# Altium integrated library Linear Technology Power Management Battery Management.IntLib: 626 symbols (part 2 of 56)
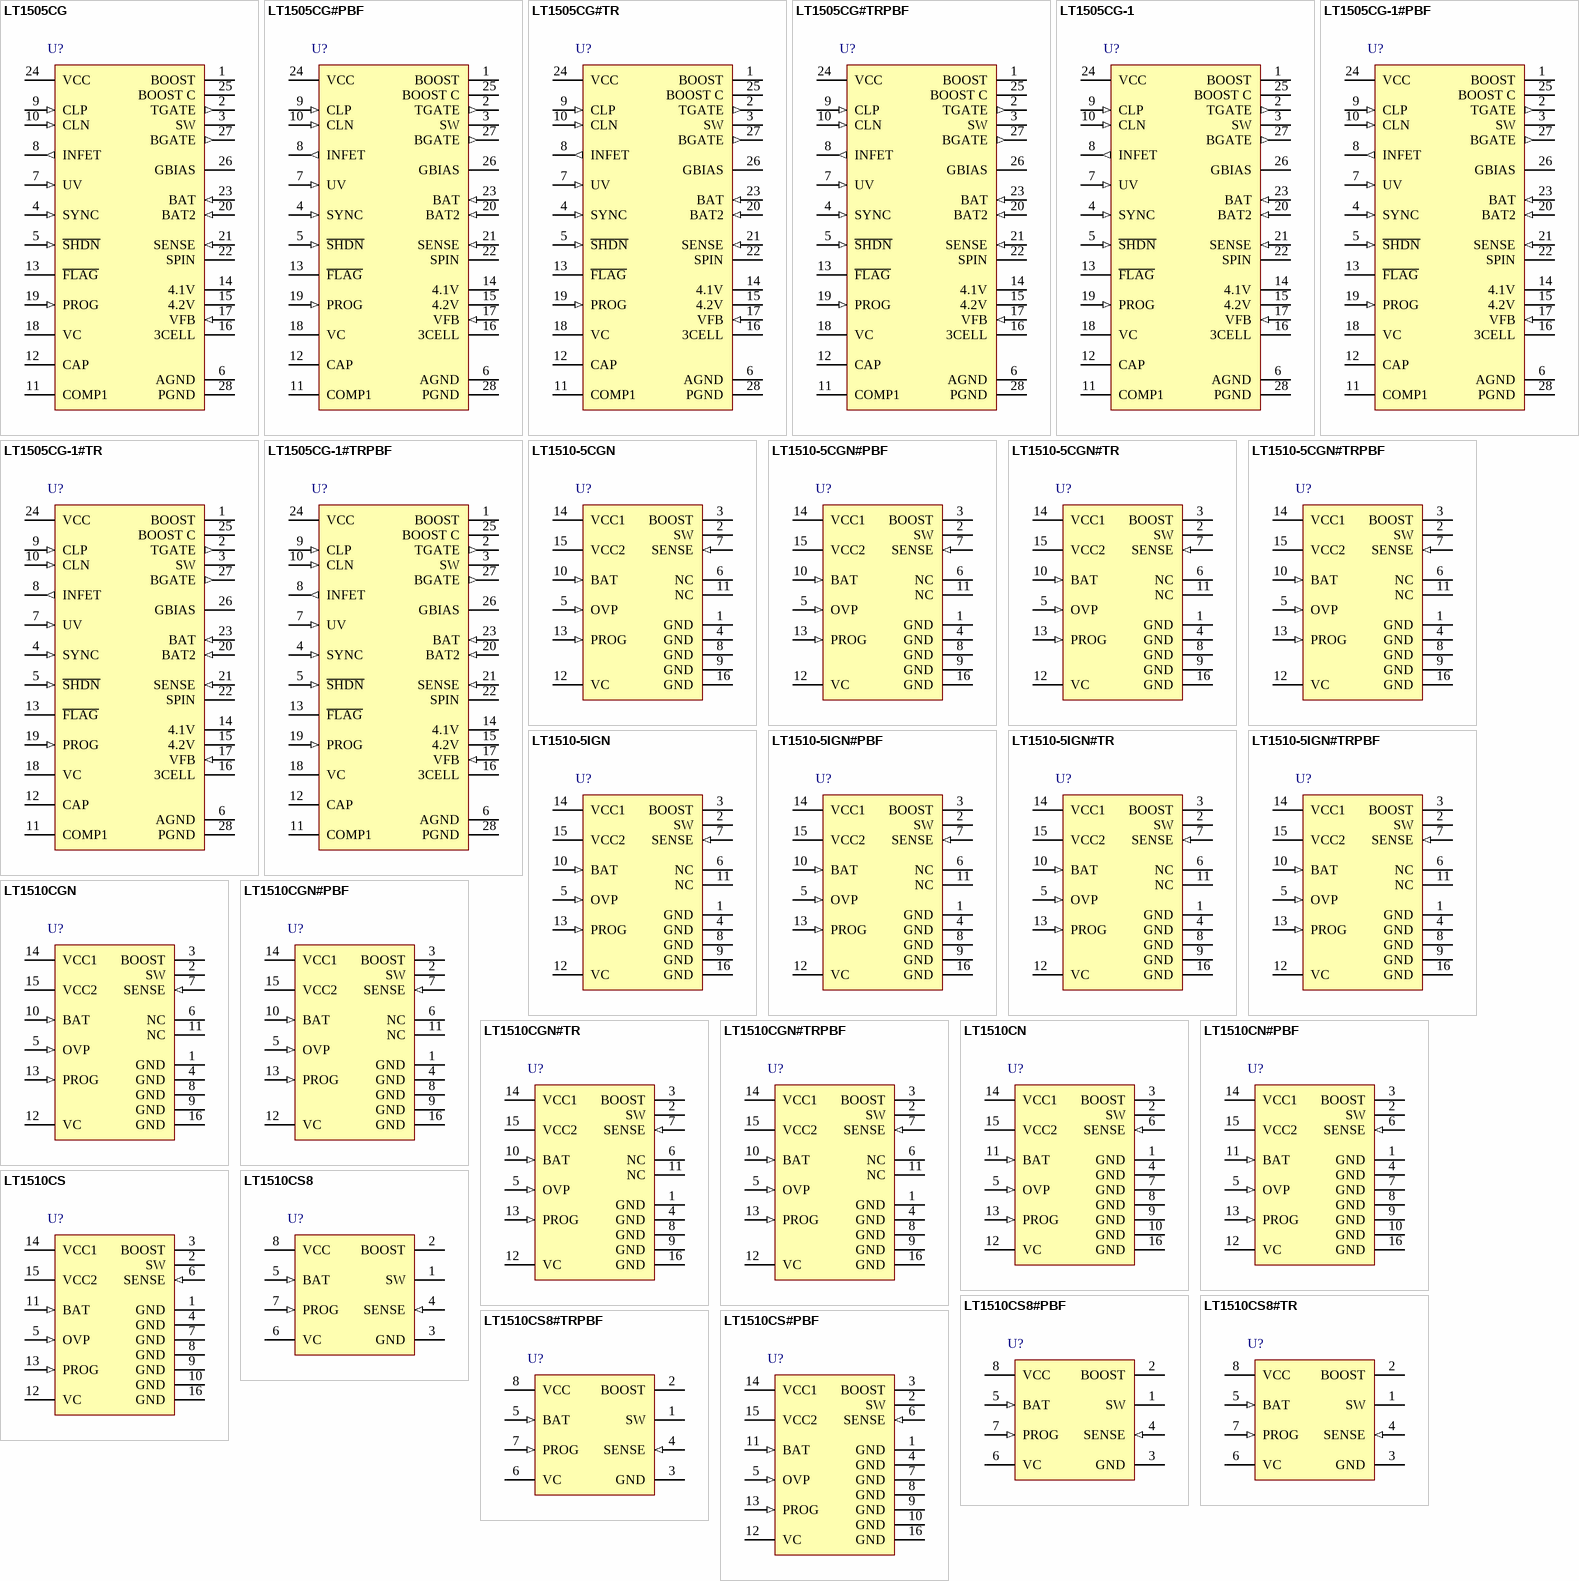
[diagram p23: symbols LT1505CG to LT1510CS#PBF]

## LT1505CG-1#TR
designator U?
Synchronous Switching Controller for High Current, High Efficiency, 11 to 24 V Vin, 28-pin SOP (G-28), 0 to 70 degC, Tape and Reel; Manufacturer: Linear Technology; PartNumber: LT1505CG-1#TR; Battery Chemistry: Li-Ion, Li-Polymer, NiCd, NiMH, Lead Acid; Charge Termination: Microcontroller; Float Voltage: Adj; Max Charge Current(A): 4; Number of Cells: 1 to 4 (Li), 1 to 12 (Ni); Vin Max(V): 24; Vin Min(V): 11; DatasheetVersion: Rev. C; PackageVersion: Jun-10; PackageReference: G-28; PackageDescription: 28-Pin Plastic SSOP, Body 10.2 x 5.3 mm, Pitch 0.65 mm; Supplier 1: Digi-Key; Supplier Part Number 1: LT1505CG-1#TR-ND; Packing: Tape and Reel; RoHS: FALSE; Type of Charger: Switching; Mounting Technology: Surface Mount; ComponentLink1Description: Manufacturer URL; ComponentLink1URL: http://www.linear.com/; ComponentLink2Description: Datasheet; ComponentLink2URL: http://cds.linear.com/docs/en/datasheet/1505fc.pdf; ComponentLink3Description: Package Specification; ComponentLink3URL: http://cds.linear.com/docs/en/packaging/SSOP_28_05-08-1640.pdf
footprint LT-G-28_N (SOP, 28-Leads, Body 10.2x5.3mm, Pitch 0.65mm, IPC Medium Density)
footprint LT-G-28_L (SOP, 28-Leads, Body 10.2x5.3mm, Pitch 0.65mm, IPC High Density)
footprint LT-G-28_M (SOP, 28-Leads, Body 10.2x5.3mm, Pitch 0.65mm, IPC Low Density)
pins: 1 BOOST "This pin is used to bootstrap and supply power for the topside power switch gate drive and control circuity. In normal operation, VBOOST is powered from an internally generated 8.6V regulator VGBIAS, VBOOST approx=  VCC + 9.(See Datasheet)", 2 TGATE (out) "This pin provides gate drive to the topside power FET. When TGATE is driven on, the gate voltage will be approximately equal to VSW + 6.6V. A series resistor of 5ohm to 10ohm should be used from this pin to the gate of the (See Datasheet)", 3 SW "This pin is the reference point for the floating topside gate drive circuitry. It is the common connection for the top and bottom side switches and the output inductor. This pin switches between ground and VCC with very high (See Datasheet)", 4 SYNC (in) "Synchronization Input. The LT1505 can be synchronized to an external clock with pulses that have duty cycles between 10% and 95%. An internal one shot that is triggered on the rising edge of the sync pulse makes this input (See Datasheet)", 5 ~{SHDN} (in) "Shutdown. When this pin is pulled below 1V, switching will stop, GBIAS will go low and the input currents of CA1 will be off. Note that input current of about 4mA keeps the device in shutdown unless an external pull-up (See Datasheet)", 6 AGND (power) "Low Current Analog Ground.", 7 UV (in) "Undervoltage Lockout Input. The rising threshold is 6.7V with a hysteresis of 0.5V. Switching stops in undervoltage lockout. When the input supply (normally the wall adapter output) to the chip is removed, the UV pin must be (See Datasheet)", 8 INFET (out) "For very low dropout applications, an external P-channel MOSFET can be used to connect the input supply to VCC. This pin provides the gate drive for the PFET. The gate drive is clamped to 8V below VCC. The gate is driven on (See Datasheet)", 9 CLP (in) "Positive Input to the Input Current Limit Amplifier CL1. The threshold is set at 92mV. When used to limit input current, a filter is needed to filter out the 200kHz switching noise.", 10 CLN (in) "Negative Input to the Input Current Limit Amplifier CL1. When used, both CLP and CLN should be connected to a voltage higher than 6V and normally VCC (to the VCC bypass capacitor for less noise). Maximum voltage allowed on (See Datasheet)", 11 COMP1 "Compensation Node for the Input Current Limit Amplifier CL1. At input adapter current limit, this pin rises to 1V. By forcing COMP1 low with an external transistor, amplifier CL1 will be disabled (no adapter current limit). (See Datasheet)", 12 CAP "A 0.1uF capacitor from CAP to ground is needed to filter the sampled charging current signal. This filtered signal is used to set the FLAG pin when the charging current drops below 20% of the programmed maximum charging (See Datasheet)", 13 ~{FLAG} (oc) "This pin is an open-collector output that is used to indicate the end of charge. The F\L\A\G\ pin is driven low when the charge current drops below 20% of the programmed charge current. A pull-up resistor is required if this (See Datasheet)", 14 4.1V "These four pins are used to select the battery voltage using the preset internal resistor network. The VFB pin is the noninverting input to the amplifier, VA in the Block Diagram, that controls the charging current when the (See Datasheet)", 15 4.2V "These four pins are used to select the battery voltage using the preset internal resistor network. The VFB pin is the noninverting input to the amplifier, VA in the Block Diagram, that controls the charging current when the (See Datasheet)", 16 3CELL "These four pins are used to select the battery voltage using the preset internal resistor network. The VFB pin is the noninverting input to the amplifier, VA in the Block Diagram, that controls the charging current when the (See Datasheet)", 17 VFB (in) "These four pins are used to select the battery voltage using the preset internal resistor network. The VFB pin is the noninverting input to the amplifier, VA in the Block Diagram, that controls the charging current when the (See Datasheet)", 18 VC "This is the control signal of the inner loop of the current mode PWM. Switching starts at 0.9V, higher VC corresponds to higher charging current in normal operation and reaches 1.1V at full charging current. A capacitor of (See Datasheet)", 19 PROG (in) "This pin is for programming the charge current and for system loop compensation. During normal operation, VPROG stays at 2.465V. If it is shorted to GND or more than 1mA is drawn out of the pin, switching will stop. When a (See Datasheet)", 20 BAT2 (in) "This pin is used to connect the battery to the internal preset voltage setting resistor. An internal switch disconnects the internal divider from the battery when the device is in shutdown or when power is disconnected. This (See Datasheet)", 21 SENSE (in) "This pin is the noninverting input to the current amplifier CA1 in the Block Diagram. Typical bias current is -50uA.", 22 SPIN "This pin is for the internal amplifier CA1 bias. It must be connected as shown in the application circuit.", 23 BAT (in) "Current Amplifier CA1 Inverting Input. Typical bias current is -50uA.", 24 VCC (power) "Input Supply. For good bypass, a low ESR capacitor of 10uF or higher is required. Keep the lead length to a minimum. VCC should be between 11V and 24V Do not force VCC below VBAT by more than 1V with the battery present.", 25 BOOST C (power) "This pin is used to bootstrap and supply the current sense amplifier CA1 for very low dropout condition. VCC can be as low as only 0.4V above the battery voltage. A diode and a capacitor are needed to get the voltage from (See Datasheet)", 26 GBIAS "This is the output of the internal 9.1V regulator to power the drivers and control circuits. This pin must be bypassed to a ground plane with a minimum of 2.2uF ceramic capacitor. Switching will stop when VGBIAS drops below (See Datasheet)", 27 BGATE (out) "Low Side Power MOSFET Drive.", 28 PGND (power) "MOSFET Driver Power Ground. A solid system ground plane is very important. See the LT1505 Demo Manual for further information."

## LT1505CG-1#TRPBF
designator U?
Synchronous Switching Controller for High Current, High Efficiency, 11 to 24 V Vin, 28-pin SOP (G-28), 0 to 70 degC, Pb-Free, Tape and Reel; Manufacturer: Linear Technology; PartNumber: LT1505CG-1#TRPBF; Battery Chemistry: Li-Ion, Li-Polymer, NiCd, NiMH, Lead Acid; Charge Termination: Microcontroller; Float Voltage: Adj; Max Charge Current(A): 4; Number of Cells: 1 to 4 (Li), 1 to 12 (Ni); Vin Max(V): 24; Vin Min(V): 11; DatasheetVersion: Rev. C; PackageVersion: Jun-10; PackageReference: G-28; PackageDescription: 28-Pin Plastic SSOP, Body 10.2 x 5.3 mm, Pitch 0.65 mm; Supplier 1: Digi-Key; Supplier Part Number 1: LT1505CG-1#TRPBF-ND; Packing: Tape and Reel; RoHS: TRUE; Type of Charger: Switching; Mounting Technology: Surface Mount; ComponentLink1Description: Manufacturer URL; ComponentLink1URL: http://www.linear.com/; ComponentLink2Description: Datasheet; ComponentLink2URL: http://cds.linear.com/docs/en/datasheet/1505fc.pdf; ComponentLink3Description: Package Specification; ComponentLink3URL: http://cds.linear.com/docs/en/packaging/SSOP_28_05-08-1640.pdf
footprint LT-G-28_N (SOP, 28-Leads, Body 10.2x5.3mm, Pitch 0.65mm, IPC Medium Density)
footprint LT-G-28_L (SOP, 28-Leads, Body 10.2x5.3mm, Pitch 0.65mm, IPC High Density)
footprint LT-G-28_M (SOP, 28-Leads, Body 10.2x5.3mm, Pitch 0.65mm, IPC Low Density)
pins: 1 BOOST "This pin is used to bootstrap and supply power for the topside power switch gate drive and control circuity. In normal operation, VBOOST is powered from an internally generated 8.6V regulator VGBIAS, VBOOST approx=  VCC + 9.(See Datasheet)", 2 TGATE (out) "This pin provides gate drive to the topside power FET. When TGATE is driven on, the gate voltage will be approximately equal to VSW + 6.6V. A series resistor of 5ohm to 10ohm should be used from this pin to the gate of the (See Datasheet)", 3 SW "This pin is the reference point for the floating topside gate drive circuitry. It is the common connection for the top and bottom side switches and the output inductor. This pin switches between ground and VCC with very high (See Datasheet)", 4 SYNC (in) "Synchronization Input. The LT1505 can be synchronized to an external clock with pulses that have duty cycles between 10% and 95%. An internal one shot that is triggered on the rising edge of the sync pulse makes this input (See Datasheet)", 5 ~{SHDN} (in) "Shutdown. When this pin is pulled below 1V, switching will stop, GBIAS will go low and the input currents of CA1 will be off. Note that input current of about 4mA keeps the device in shutdown unless an external pull-up (See Datasheet)", 6 AGND (power) "Low Current Analog Ground.", 7 UV (in) "Undervoltage Lockout Input. The rising threshold is 6.7V with a hysteresis of 0.5V. Switching stops in undervoltage lockout. When the input supply (normally the wall adapter output) to the chip is removed, the UV pin must be (See Datasheet)", 8 INFET (out) "For very low dropout applications, an external P-channel MOSFET can be used to connect the input supply to VCC. This pin provides the gate drive for the PFET. The gate drive is clamped to 8V below VCC. The gate is driven on (See Datasheet)", 9 CLP (in) "Positive Input to the Input Current Limit Amplifier CL1. The threshold is set at 92mV. When used to limit input current, a filter is needed to filter out the 200kHz switching noise.", 10 CLN (in) "Negative Input to the Input Current Limit Amplifier CL1. When used, both CLP and CLN should be connected to a voltage higher than 6V and normally VCC (to the VCC bypass capacitor for less noise). Maximum voltage allowed on (See Datasheet)", 11 COMP1 "Compensation Node for the Input Current Limit Amplifier CL1. At input adapter current limit, this pin rises to 1V. By forcing COMP1 low with an external transistor, amplifier CL1 will be disabled (no adapter current limit). (See Datasheet)", 12 CAP "A 0.1uF capacitor from CAP to ground is needed to filter the sampled charging current signal. This filtered signal is used to set the FLAG pin when the charging current drops below 20% of the programmed maximum charging (See Datasheet)", 13 ~{FLAG} (oc) "This pin is an open-collector output that is used to indicate the end of charge. The F\L\A\G\ pin is driven low when the charge current drops below 20% of the programmed charge current. A pull-up resistor is required if this (See Datasheet)", 14 4.1V "These four pins are used to select the battery voltage using the preset internal resistor network. The VFB pin is the noninverting input to the amplifier, VA in the Block Diagram, that controls the charging current when the (See Datasheet)", 15 4.2V "These four pins are used to select the battery voltage using the preset internal resistor network. The VFB pin is the noninverting input to the amplifier, VA in the Block Diagram, that controls the charging current when the (See Datasheet)", 16 3CELL "These four pins are used to select the battery voltage using the preset internal resistor network. The VFB pin is the noninverting input to the amplifier, VA in the Block Diagram, that controls the charging current when the (See Datasheet)", 17 VFB (in) "These four pins are used to select the battery voltage using the preset internal resistor network. The VFB pin is the noninverting input to the amplifier, VA in the Block Diagram, that controls the charging current when the (See Datasheet)", 18 VC "This is the control signal of the inner loop of the current mode PWM. Switching starts at 0.9V, higher VC corresponds to higher charging current in normal operation and reaches 1.1V at full charging current. A capacitor of (See Datasheet)", 19 PROG (in) "This pin is for programming the charge current and for system loop compensation. During normal operation, VPROG stays at 2.465V. If it is shorted to GND or more than 1mA is drawn out of the pin, switching will stop. When a (See Datasheet)", 20 BAT2 (in) "This pin is used to connect the battery to the internal preset voltage setting resistor. An internal switch disconnects the internal divider from the battery when the device is in shutdown or when power is disconnected. This (See Datasheet)", 21 SENSE (in) "This pin is the noninverting input to the current amplifier CA1 in the Block Diagram. Typical bias current is -50uA.", 22 SPIN "This pin is for the internal amplifier CA1 bias. It must be connected as shown in the application circuit.", 23 BAT (in) "Current Amplifier CA1 Inverting Input. Typical bias current is -50uA.", 24 VCC (power) "Input Supply. For good bypass, a low ESR capacitor of 10uF or higher is required. Keep the lead length to a minimum. VCC should be between 11V and 24V Do not force VCC below VBAT by more than 1V with the battery present.", 25 BOOST C (power) "This pin is used to bootstrap and supply the current sense amplifier CA1 for very low dropout condition. VCC can be as low as only 0.4V above the battery voltage. A diode and a capacitor are needed to get the voltage from (See Datasheet)", 26 GBIAS "This is the output of the internal 9.1V regulator to power the drivers and control circuits. This pin must be bypassed to a ground plane with a minimum of 2.2uF ceramic capacitor. Switching will stop when VGBIAS drops below (See Datasheet)", 27 BGATE (out) "Low Side Power MOSFET Drive.", 28 PGND (power) "MOSFET Driver Power Ground. A solid system ground plane is very important. See the LT1505 Demo Manual for further information."

## LT1510-5CGN
designator U?
Constant-Voltage/ Constant-Current Battery Charger, 7 to 29 V Vin, 16-pin SOP (GN-16), 0 to 70 degC; Manufacturer: Linear Technology; PartNumber: LT1510-5CGN; Battery Chemistry: Li-Ion, Li-Polymer, NiCd, NiMH, Lead Acid; Charge Termination: Use LTC1729; Float Voltage: Adj; Max Charge Current(A): 1.07; Number of Cells: 1 to 4 (Li), 1 to 12 (Ni); Type of Charger: Switching; Vin Max(V): 29; Vin Min(V): 7; DatasheetVersion: Rev. C; PackageVersion: Rev. B, 03/2012; PackageReference: GN-16; PackageDescription: 16-Pin Plastic SSOP, Body 4.9 x 3.9 mm, Pitch 0.635 mm; Supplier 1: Digi-Key; Supplier Part Number 1: LT1510-5CGN-ND; RoHS: FALSE; Mounting Technology: Surface Mount; ComponentLink1Description: Manufacturer URL; ComponentLink1URL: http://www.linear.com/; ComponentLink2Description: Datasheet; ComponentLink2URL: http://cds.linear.com/docs/en/datasheet/1510fc.pdf; ComponentLink3Description: Package Specification; ComponentLink3URL: http://cds.linear.com/docs/en/packaging/05081641_B_GN16.pdf
footprint LT-GN-16_N (SOP, 16-Leads, Body 5x4mm, Pitch 0.635mm, IPC Medium Density)
footprint LT-GN-16_L (SOP, 16-Leads, Body 5x4mm, Pitch 0.635mm, IPC High Density)
footprint LT-GN-16_M (SOP, 16-Leads, Body 5x4mm, Pitch 0.635mm, IPC Low Density)
pins: 1 GND (power) "Ground Pin.", 2 SW (power) "Switch Output. The Schottky catch diode must be placed with very short lead length in close proximity to SW pin and GND.", 3 BOOST "This pin is used to bootstrap and drive the switch power NPN transistor to a low on-voltage for low power dissipation. In normal operation, VBOOST = VCC + VBAT when switch is on. Maximum allowable VBOOST is 55V.", 4 GND (power) "Ground Pin.", 5 OVP (in) "This is the input to the amplifier VA with a threshold of 2.465V. Typical input current is about 50nA into pin. For charging lithium-ion batteries, VA monitors the battery voltage and reduces charging current when battery (See Datasheet)", 6 NC, 7 SENSE (in) "Current Amplifier CA1 Input. Sensing can be at either terminal of the battery. Note that current sense resistor RS1 (0.08ohm) is between Sense and BAT pins.", 8 GND (power) "Ground Pin.", 9 GND (power) "Ground Pin.", 10 BAT (in) "Current Amplifier CA1 Input.", 11 NC, 12 VC "This is the control signal of the inner loop of the current mode PWM. Switching starts at 0.7V and higher VC corresponds to higher charging current in normal operation. A capacitor of at least 0.1uF to GND filters out noise (See Datasheet)", 13 PROG (in) "This pin is for programming the charging current and for system loop compensation. During normal operation, VPROG stays close to 2.465V. If it is shorted to GND the switching will stop. When a microprocessor-controlled DAC (See Datasheet)", 14 VCC1 (power) "Supply for the Chip. For good bypass, a low ESR capacitor of 10uF or higher is required, with the lead length kept to a minimum. VCC should be between 8V and 28V and at least 2V higher than VBAT for VBAT less than 10V, and 2.(See Datasheet)", 15 VCC2 (power) "Supply for the Chip. For good bypass, a low ESR capacitor of 10uF or higher is required, with the lead length kept to a minimum. VCC should be between 8V and 28V and at least 2V higher than VBAT for VBAT less than 10V, and 2.(See Datasheet)", 16 GND (power) "Ground Pin."

## LT1510-5CGN#PBF
designator U?
Constant-Voltage/ Constant-Current Battery Charger, 7 to 29 V Vin, 16-pin SOP (GN-16), 0 to 70 degC, Pb-Free; Manufacturer: Linear Technology; PartNumber: LT1510-5CGN#PBF; Battery Chemistry: Li-Ion, Li-Polymer, NiCd, NiMH, Lead Acid; Charge Termination: Use LTC1729; Float Voltage: Adj; Max Charge Current(A): 1.07; Number of Cells: 1 to 4 (Li), 1 to 12 (Ni); Type of Charger: Switching; Vin Max(V): 29; Vin Min(V): 7; DatasheetVersion: Rev. C; PackageVersion: Rev. B, 03/2012; PackageReference: GN-16; PackageDescription: 16-Pin Plastic SSOP, Body 4.9 x 3.9 mm, Pitch 0.635 mm; Supplier 1: Digi-Key; Supplier Part Number 1: LT1510-5CGN#PBF-ND; Supplier 2: Farnell; Supplier Part Number 2: 2252789; Supplier 3: Newark; Supplier Part Number 3: 57M4664; RoHS: TRUE; Mounting Technology: Surface Mount; ComponentLink1Description: Manufacturer URL; ComponentLink1URL: http://www.linear.com/; ComponentLink2Description: Datasheet; ComponentLink2URL: http://cds.linear.com/docs/en/datasheet/1510fc.pdf; ComponentLink3Description: Package Specification; ComponentLink3URL: http://cds.linear.com/docs/en/packaging/05081641_B_GN16.pdf
footprint LT-GN-16_N (SOP, 16-Leads, Body 5x4mm, Pitch 0.635mm, IPC Medium Density)
footprint LT-GN-16_L (SOP, 16-Leads, Body 5x4mm, Pitch 0.635mm, IPC High Density)
footprint LT-GN-16_M (SOP, 16-Leads, Body 5x4mm, Pitch 0.635mm, IPC Low Density)
pins: 1 GND (power) "Ground Pin.", 2 SW (power) "Switch Output. The Schottky catch diode must be placed with very short lead length in close proximity to SW pin and GND.", 3 BOOST "This pin is used to bootstrap and drive the switch power NPN transistor to a low on-voltage for low power dissipation. In normal operation, VBOOST = VCC + VBAT when switch is on. Maximum allowable VBOOST is 55V.", 4 GND (power) "Ground Pin.", 5 OVP (in) "This is the input to the amplifier VA with a threshold of 2.465V. Typical input current is about 50nA into pin. For charging lithium-ion batteries, VA monitors the battery voltage and reduces charging current when battery (See Datasheet)", 6 NC, 7 SENSE (in) "Current Amplifier CA1 Input. Sensing can be at either terminal of the battery. Note that current sense resistor RS1 (0.08ohm) is between Sense and BAT pins.", 8 GND (power) "Ground Pin.", 9 GND (power) "Ground Pin.", 10 BAT (in) "Current Amplifier CA1 Input.", 11 NC, 12 VC "This is the control signal of the inner loop of the current mode PWM. Switching starts at 0.7V and higher VC corresponds to higher charging current in normal operation. A capacitor of at least 0.1uF to GND filters out noise (See Datasheet)", 13 PROG (in) "This pin is for programming the charging current and for system loop compensation. During normal operation, VPROG stays close to 2.465V. If it is shorted to GND the switching will stop. When a microprocessor-controlled DAC (See Datasheet)", 14 VCC1 (power) "Supply for the Chip. For good bypass, a low ESR capacitor of 10uF or higher is required, with the lead length kept to a minimum. VCC should be between 8V and 28V and at least 2V higher than VBAT for VBAT less than 10V, and 2.(See Datasheet)", 15 VCC2 (power) "Supply for the Chip. For good bypass, a low ESR capacitor of 10uF or higher is required, with the lead length kept to a minimum. VCC should be between 8V and 28V and at least 2V higher than VBAT for VBAT less than 10V, and 2.(See Datasheet)", 16 GND (power) "Ground Pin."

## LT1510-5CGN#TR
designator U?
Constant-Voltage/ Constant-Current Battery Charger, 7 to 29 V Vin, 16-pin SOP (GN-16), 0 to 70 degC, Tape and Reel; Manufacturer: Linear Technology; PartNumber: LT1510-5CGN#TR; Battery Chemistry: Li-Ion, Li-Polymer, NiCd, NiMH, Lead Acid; Charge Termination: Use LTC1729; Float Voltage: Adj; Max Charge Current(A): 1.07; Number of Cells: 1 to 4 (Li), 1 to 12 (Ni); Type of Charger: Switching; Vin Max(V): 29; Vin Min(V): 7; DatasheetVersion: Rev. C; PackageVersion: Rev. B, 03/2012; PackageReference: GN-16; PackageDescription: 16-Pin Plastic SSOP, Body 4.9 x 3.9 mm, Pitch 0.635 mm; Supplier 1: Digi-Key; Supplier Part Number 1: LT1510-5CGN#TR-ND; Packing: Tape and Reel; RoHS: FALSE; Mounting Technology: Surface Mount; ComponentLink1Description: Manufacturer URL; ComponentLink1URL: http://www.linear.com/; ComponentLink2Description: Datasheet; ComponentLink2URL: http://cds.linear.com/docs/en/datasheet/1510fc.pdf; ComponentLink3Description: Package Specification; ComponentLink3URL: http://cds.linear.com/docs/en/packaging/05081641_B_GN16.pdf
footprint LT-GN-16_N (SOP, 16-Leads, Body 5x4mm, Pitch 0.635mm, IPC Medium Density)
footprint LT-GN-16_L (SOP, 16-Leads, Body 5x4mm, Pitch 0.635mm, IPC High Density)
footprint LT-GN-16_M (SOP, 16-Leads, Body 5x4mm, Pitch 0.635mm, IPC Low Density)
pins: 1 GND (power) "Ground Pin.", 2 SW (power) "Switch Output. The Schottky catch diode must be placed with very short lead length in close proximity to SW pin and GND.", 3 BOOST "This pin is used to bootstrap and drive the switch power NPN transistor to a low on-voltage for low power dissipation. In normal operation, VBOOST = VCC + VBAT when switch is on. Maximum allowable VBOOST is 55V.", 4 GND (power) "Ground Pin.", 5 OVP (in) "This is the input to the amplifier VA with a threshold of 2.465V. Typical input current is about 50nA into pin. For charging lithium-ion batteries, VA monitors the battery voltage and reduces charging current when battery (See Datasheet)", 6 NC, 7 SENSE (in) "Current Amplifier CA1 Input. Sensing can be at either terminal of the battery. Note that current sense resistor RS1 (0.08ohm) is between Sense and BAT pins.", 8 GND (power) "Ground Pin.", 9 GND (power) "Ground Pin.", 10 BAT (in) "Current Amplifier CA1 Input.", 11 NC, 12 VC "This is the control signal of the inner loop of the current mode PWM. Switching starts at 0.7V and higher VC corresponds to higher charging current in normal operation. A capacitor of at least 0.1uF to GND filters out noise (See Datasheet)", 13 PROG (in) "This pin is for programming the charging current and for system loop compensation. During normal operation, VPROG stays close to 2.465V. If it is shorted to GND the switching will stop. When a microprocessor-controlled DAC (See Datasheet)", 14 VCC1 (power) "Supply for the Chip. For good bypass, a low ESR capacitor of 10uF or higher is required, with the lead length kept to a minimum. VCC should be between 8V and 28V and at least 2V higher than VBAT for VBAT less than 10V, and 2.(See Datasheet)", 15 VCC2 (power) "Supply for the Chip. For good bypass, a low ESR capacitor of 10uF or higher is required, with the lead length kept to a minimum. VCC should be between 8V and 28V and at least 2V higher than VBAT for VBAT less than 10V, and 2.(See Datasheet)", 16 GND (power) "Ground Pin."

## LT1510-5CGN#TRPBF
designator U?
Constant-Voltage/ Constant-Current Battery Charger, 7 to 29 V Vin, 16-pin SOP (GN-16), 0 to 70 degC, Pb-Free, Tape and Reel; Manufacturer: Linear Technology; PartNumber: LT1510-5CGN#TRPBF; Battery Chemistry: Li-Ion, Li-Polymer, NiCd, NiMH, Lead Acid; Charge Termination: Use LTC1729; Float Voltage: Adj; Max Charge Current(A): 1.07; Number of Cells: 1 to 4 (Li), 1 to 12 (Ni); Type of Charger: Switching; Vin Max(V): 29; Vin Min(V): 7; DatasheetVersion: Rev. C; PackageVersion: Rev. B, 03/2012; PackageReference: GN-16; PackageDescription: 16-Pin Plastic SSOP, Body 4.9 x 3.9 mm, Pitch 0.635 mm; Supplier 1: Digi-Key; Supplier Part Number 1: LT1510-5CGN#TRPBF-ND; Packing: Tape and Reel; RoHS: TRUE; Mounting Technology: Surface Mount; ComponentLink1Description: Manufacturer URL; ComponentLink1URL: http://www.linear.com/; ComponentLink2Description: Datasheet; ComponentLink2URL: http://cds.linear.com/docs/en/datasheet/1510fc.pdf; ComponentLink3Description: Package Specification; ComponentLink3URL: http://cds.linear.com/docs/en/packaging/05081641_B_GN16.pdf
footprint LT-GN-16_N (SOP, 16-Leads, Body 5x4mm, Pitch 0.635mm, IPC Medium Density)
footprint LT-GN-16_L (SOP, 16-Leads, Body 5x4mm, Pitch 0.635mm, IPC High Density)
footprint LT-GN-16_M (SOP, 16-Leads, Body 5x4mm, Pitch 0.635mm, IPC Low Density)
pins: 1 GND (power) "Ground Pin.", 2 SW (power) "Switch Output. The Schottky catch diode must be placed with very short lead length in close proximity to SW pin and GND.", 3 BOOST "This pin is used to bootstrap and drive the switch power NPN transistor to a low on-voltage for low power dissipation. In normal operation, VBOOST = VCC + VBAT when switch is on. Maximum allowable VBOOST is 55V.", 4 GND (power) "Ground Pin.", 5 OVP (in) "This is the input to the amplifier VA with a threshold of 2.465V. Typical input current is about 50nA into pin. For charging lithium-ion batteries, VA monitors the battery voltage and reduces charging current when battery (See Datasheet)", 6 NC, 7 SENSE (in) "Current Amplifier CA1 Input. Sensing can be at either terminal of the battery. Note that current sense resistor RS1 (0.08ohm) is between Sense and BAT pins.", 8 GND (power) "Ground Pin.", 9 GND (power) "Ground Pin.", 10 BAT (in) "Current Amplifier CA1 Input.", 11 NC, 12 VC "This is the control signal of the inner loop of the current mode PWM. Switching starts at 0.7V and higher VC corresponds to higher charging current in normal operation. A capacitor of at least 0.1uF to GND filters out noise (See Datasheet)", 13 PROG (in) "This pin is for programming the charging current and for system loop compensation. During normal operation, VPROG stays close to 2.465V. If it is shorted to GND the switching will stop. When a microprocessor-controlled DAC (See Datasheet)", 14 VCC1 (power) "Supply for the Chip. For good bypass, a low ESR capacitor of 10uF or higher is required, with the lead length kept to a minimum. VCC should be between 8V and 28V and at least 2V higher than VBAT for VBAT less than 10V, and 2.(See Datasheet)", 15 VCC2 (power) "Supply for the Chip. For good bypass, a low ESR capacitor of 10uF or higher is required, with the lead length kept to a minimum. VCC should be between 8V and 28V and at least 2V higher than VBAT for VBAT less than 10V, and 2.(See Datasheet)", 16 GND (power) "Ground Pin."

## LT1510-5IGN
designator U?
Constant-Voltage/ Constant-Current Battery Charger, 7 to 29 V Vin, 16-pin SOP (GN-16), -40 to 85 degC; Manufacturer: Linear Technology; PartNumber: LT1510-5IGN; Battery Chemistry: Li-Ion, Li-Polymer, NiCd, NiMH, Lead Acid; Charge Termination: Use LTC1729; Float Voltage: Adj; Max Charge Current(A): 1.07; Number of Cells: 1 to 4 (Li), 1 to 12 (Ni); Type of Charger: Switching; Vin Max(V): 29; Vin Min(V): 7; DatasheetVersion: Rev. C; PackageVersion: Rev. B, 03/2012; PackageReference: GN-16; PackageDescription: 16-Pin Plastic SSOP, Body 4.9 x 3.9 mm, Pitch 0.635 mm; Supplier 1: Digi-Key; Supplier Part Number 1: LT1510-5IGN-ND; Supplier 2: Newark; Supplier Part Number 2: 57M4667; RoHS: FALSE; Mounting Technology: Surface Mount; ComponentLink1Description: Manufacturer URL; ComponentLink1URL: http://www.linear.com/; ComponentLink2Description: Datasheet; ComponentLink2URL: http://cds.linear.com/docs/en/datasheet/1510fc.pdf; ComponentLink3Description: Package Specification; ComponentLink3URL: http://cds.linear.com/docs/en/packaging/05081641_B_GN16.pdf
footprint LT-GN-16_N (SOP, 16-Leads, Body 5x4mm, Pitch 0.635mm, IPC Medium Density)
footprint LT-GN-16_L (SOP, 16-Leads, Body 5x4mm, Pitch 0.635mm, IPC High Density)
footprint LT-GN-16_M (SOP, 16-Leads, Body 5x4mm, Pitch 0.635mm, IPC Low Density)
pins: 1 GND (power) "Ground Pin.", 2 SW (power) "Switch Output. The Schottky catch diode must be placed with very short lead length in close proximity to SW pin and GND.", 3 BOOST "This pin is used to bootstrap and drive the switch power NPN transistor to a low on-voltage for low power dissipation. In normal operation, VBOOST = VCC + VBAT when switch is on. Maximum allowable VBOOST is 55V.", 4 GND (power) "Ground Pin.", 5 OVP (in) "This is the input to the amplifier VA with a threshold of 2.465V. Typical input current is about 50nA into pin. For charging lithium-ion batteries, VA monitors the battery voltage and reduces charging current when battery (See Datasheet)", 6 NC, 7 SENSE (in) "Current Amplifier CA1 Input. Sensing can be at either terminal of the battery. Note that current sense resistor RS1 (0.08ohm) is between Sense and BAT pins.", 8 GND (power) "Ground Pin.", 9 GND (power) "Ground Pin.", 10 BAT (in) "Current Amplifier CA1 Input.", 11 NC, 12 VC "This is the control signal of the inner loop of the current mode PWM. Switching starts at 0.7V and higher VC corresponds to higher charging current in normal operation. A capacitor of at least 0.1uF to GND filters out noise (See Datasheet)", 13 PROG (in) "This pin is for programming the charging current and for system loop compensation. During normal operation, VPROG stays close to 2.465V. If it is shorted to GND the switching will stop. When a microprocessor-controlled DAC (See Datasheet)", 14 VCC1 (power) "Supply for the Chip. For good bypass, a low ESR capacitor of 10uF or higher is required, with the lead length kept to a minimum. VCC should be between 8V and 28V and at least 2V higher than VBAT for VBAT less than 10V, and 2.(See Datasheet)", 15 VCC2 (power) "Supply for the Chip. For good bypass, a low ESR capacitor of 10uF or higher is required, with the lead length kept to a minimum. VCC should be between 8V and 28V and at least 2V higher than VBAT for VBAT less than 10V, and 2.(See Datasheet)", 16 GND (power) "Ground Pin."

## LT1510-5IGN#PBF
designator U?
Constant-Voltage/ Constant-Current Battery Charger, 7 to 29 V Vin, 16-pin SOP (GN-16), -40 to 85 degC, Pb-Free; Manufacturer: Linear Technology; PartNumber: LT1510-5IGN#PBF; Battery Chemistry: Li-Ion, Li-Polymer, NiCd, NiMH, Lead Acid; Charge Termination: Use LTC1729; Float Voltage: Adj; Max Charge Current(A): 1.07; Number of Cells: 1 to 4 (Li), 1 to 12 (Ni); Type of Charger: Switching; Vin Max(V): 29; Vin Min(V): 7; DatasheetVersion: Rev. C; PackageVersion: Rev. B, 03/2012; PackageReference: GN-16; PackageDescription: 16-Pin Plastic SSOP, Body 4.9 x 3.9 mm, Pitch 0.635 mm; Supplier 1: Digi-Key; Supplier Part Number 1: LT1510-5IGN#PBF-ND; Supplier 2: Newark; Supplier Part Number 2: 57M4668; RoHS: TRUE; Mounting Technology: Surface Mount; ComponentLink1Description: Manufacturer URL; ComponentLink1URL: http://www.linear.com/; ComponentLink2Description: Datasheet; ComponentLink2URL: http://cds.linear.com/docs/en/datasheet/1510fc.pdf; ComponentLink3Description: Package Specification; ComponentLink3URL: http://cds.linear.com/docs/en/packaging/05081641_B_GN16.pdf
footprint LT-GN-16_N (SOP, 16-Leads, Body 5x4mm, Pitch 0.635mm, IPC Medium Density)
footprint LT-GN-16_L (SOP, 16-Leads, Body 5x4mm, Pitch 0.635mm, IPC High Density)
footprint LT-GN-16_M (SOP, 16-Leads, Body 5x4mm, Pitch 0.635mm, IPC Low Density)
pins: 1 GND (power) "Ground Pin.", 2 SW (power) "Switch Output. The Schottky catch diode must be placed with very short lead length in close proximity to SW pin and GND.", 3 BOOST "This pin is used to bootstrap and drive the switch power NPN transistor to a low on-voltage for low power dissipation. In normal operation, VBOOST = VCC + VBAT when switch is on. Maximum allowable VBOOST is 55V.", 4 GND (power) "Ground Pin.", 5 OVP (in) "This is the input to the amplifier VA with a threshold of 2.465V. Typical input current is about 50nA into pin. For charging lithium-ion batteries, VA monitors the battery voltage and reduces charging current when battery (See Datasheet)", 6 NC, 7 SENSE (in) "Current Amplifier CA1 Input. Sensing can be at either terminal of the battery. Note that current sense resistor RS1 (0.08ohm) is between Sense and BAT pins.", 8 GND (power) "Ground Pin.", 9 GND (power) "Ground Pin.", 10 BAT (in) "Current Amplifier CA1 Input.", 11 NC, 12 VC "This is the control signal of the inner loop of the current mode PWM. Switching starts at 0.7V and higher VC corresponds to higher charging current in normal operation. A capacitor of at least 0.1uF to GND filters out noise (See Datasheet)", 13 PROG (in) "This pin is for programming the charging current and for system loop compensation. During normal operation, VPROG stays close to 2.465V. If it is shorted to GND the switching will stop. When a microprocessor-controlled DAC (See Datasheet)", 14 VCC1 (power) "Supply for the Chip. For good bypass, a low ESR capacitor of 10uF or higher is required, with the lead length kept to a minimum. VCC should be between 8V and 28V and at least 2V higher than VBAT for VBAT less than 10V, and 2.(See Datasheet)", 15 VCC2 (power) "Supply for the Chip. For good bypass, a low ESR capacitor of 10uF or higher is required, with the lead length kept to a minimum. VCC should be between 8V and 28V and at least 2V higher than VBAT for VBAT less than 10V, and 2.(See Datasheet)", 16 GND (power) "Ground Pin."

## LT1510-5IGN#TR
designator U?
Constant-Voltage/ Constant-Current Battery Charger, 7 to 29 V Vin, 16-pin SOP (GN-16), -40 to 85 degC, Tape and Reel; Manufacturer: Linear Technology; PartNumber: LT1510-5IGN#TR; Battery Chemistry: Li-Ion, Li-Polymer, NiCd, NiMH, Lead Acid; Charge Termination: Use LTC1729; Float Voltage: Adj; Max Charge Current(A): 1.07; Number of Cells: 1 to 4 (Li), 1 to 12 (Ni); Type of Charger: Switching; Vin Max(V): 29; Vin Min(V): 7; DatasheetVersion: Rev. C; PackageVersion: Rev. B, 03/2012; PackageReference: GN-16; PackageDescription: 16-Pin Plastic SSOP, Body 4.9 x 3.9 mm, Pitch 0.635 mm; Supplier 1: Digi-Key; Supplier Part Number 1: LT1510-5IGN#TR-ND; Packing: Tape and Reel; RoHS: FALSE; Mounting Technology: Surface Mount; ComponentLink1Description: Manufacturer URL; ComponentLink1URL: http://www.linear.com/; ComponentLink2Description: Datasheet; ComponentLink2URL: http://cds.linear.com/docs/en/datasheet/1510fc.pdf; ComponentLink3Description: Package Specification; ComponentLink3URL: http://cds.linear.com/docs/en/packaging/05081641_B_GN16.pdf
footprint LT-GN-16_N (SOP, 16-Leads, Body 5x4mm, Pitch 0.635mm, IPC Medium Density)
footprint LT-GN-16_L (SOP, 16-Leads, Body 5x4mm, Pitch 0.635mm, IPC High Density)
footprint LT-GN-16_M (SOP, 16-Leads, Body 5x4mm, Pitch 0.635mm, IPC Low Density)
pins: 1 GND (power) "Ground Pin.", 2 SW (power) "Switch Output. The Schottky catch diode must be placed with very short lead length in close proximity to SW pin and GND.", 3 BOOST "This pin is used to bootstrap and drive the switch power NPN transistor to a low on-voltage for low power dissipation. In normal operation, VBOOST = VCC + VBAT when switch is on. Maximum allowable VBOOST is 55V.", 4 GND (power) "Ground Pin.", 5 OVP (in) "This is the input to the amplifier VA with a threshold of 2.465V. Typical input current is about 50nA into pin. For charging lithium-ion batteries, VA monitors the battery voltage and reduces charging current when battery (See Datasheet)", 6 NC, 7 SENSE (in) "Current Amplifier CA1 Input. Sensing can be at either terminal of the battery. Note that current sense resistor RS1 (0.08ohm) is between Sense and BAT pins.", 8 GND (power) "Ground Pin.", 9 GND (power) "Ground Pin.", 10 BAT (in) "Current Amplifier CA1 Input.", 11 NC, 12 VC "This is the control signal of the inner loop of the current mode PWM. Switching starts at 0.7V and higher VC corresponds to higher charging current in normal operation. A capacitor of at least 0.1uF to GND filters out noise (See Datasheet)", 13 PROG (in) "This pin is for programming the charging current and for system loop compensation. During normal operation, VPROG stays close to 2.465V. If it is shorted to GND the switching will stop. When a microprocessor-controlled DAC (See Datasheet)", 14 VCC1 (power) "Supply for the Chip. For good bypass, a low ESR capacitor of 10uF or higher is required, with the lead length kept to a minimum. VCC should be between 8V and 28V and at least 2V higher than VBAT for VBAT less than 10V, and 2.(See Datasheet)", 15 VCC2 (power) "Supply for the Chip. For good bypass, a low ESR capacitor of 10uF or higher is required, with the lead length kept to a minimum. VCC should be between 8V and 28V and at least 2V higher than VBAT for VBAT less than 10V, and 2.(See Datasheet)", 16 GND (power) "Ground Pin."

## LT1510-5IGN#TRPBF
designator U?
Constant-Voltage/ Constant-Current Battery Charger, 7 to 29 V Vin, 16-pin SOP (GN-16), -40 to 85 degC, Pb-Free, Tape and Reel; Manufacturer: Linear Technology; PartNumber: LT1510-5IGN#TRPBF; Battery Chemistry: Li-Ion, Li-Polymer, NiCd, NiMH, Lead Acid; Charge Termination: Use LTC1729; Float Voltage: Adj; Max Charge Current(A): 1.07; Number of Cells: 1 to 4 (Li), 1 to 12 (Ni); Type of Charger: Switching; Vin Max(V): 29; Vin Min(V): 7; DatasheetVersion: Rev. C; PackageVersion: Rev. B, 03/2012; PackageReference: GN-16; PackageDescription: 16-Pin Plastic SSOP, Body 4.9 x 3.9 mm, Pitch 0.635 mm; Supplier 1: Digi-Key; Supplier Part Number 1: LT1510-5IGN#TRPBF-ND; Supplier 2: Newark; Supplier Part Number 2: 57M4670; Packing: Tape and Reel; RoHS: TRUE; Mounting Technology: Surface Mount; ComponentLink1Description: Manufacturer URL; ComponentLink1URL: http://www.linear.com/; ComponentLink2Description: Datasheet; ComponentLink2URL: http://cds.linear.com/docs/en/datasheet/1510fc.pdf; ComponentLink3Description: Package Specification; ComponentLink3URL: http://cds.linear.com/docs/en/packaging/05081641_B_GN16.pdf
footprint LT-GN-16_N (SOP, 16-Leads, Body 5x4mm, Pitch 0.635mm, IPC Medium Density)
footprint LT-GN-16_L (SOP, 16-Leads, Body 5x4mm, Pitch 0.635mm, IPC High Density)
footprint LT-GN-16_M (SOP, 16-Leads, Body 5x4mm, Pitch 0.635mm, IPC Low Density)
pins: 1 GND (power) "Ground Pin.", 2 SW (power) "Switch Output. The Schottky catch diode must be placed with very short lead length in close proximity to SW pin and GND.", 3 BOOST "This pin is used to bootstrap and drive the switch power NPN transistor to a low on-voltage for low power dissipation. In normal operation, VBOOST = VCC + VBAT when switch is on. Maximum allowable VBOOST is 55V.", 4 GND (power) "Ground Pin.", 5 OVP (in) "This is the input to the amplifier VA with a threshold of 2.465V. Typical input current is about 50nA into pin. For charging lithium-ion batteries, VA monitors the battery voltage and reduces charging current when battery (See Datasheet)", 6 NC, 7 SENSE (in) "Current Amplifier CA1 Input. Sensing can be at either terminal of the battery. Note that current sense resistor RS1 (0.08ohm) is between Sense and BAT pins.", 8 GND (power) "Ground Pin.", 9 GND (power) "Ground Pin.", 10 BAT (in) "Current Amplifier CA1 Input.", 11 NC, 12 VC "This is the control signal of the inner loop of the current mode PWM. Switching starts at 0.7V and higher VC corresponds to higher charging current in normal operation. A capacitor of at least 0.1uF to GND filters out noise (See Datasheet)", 13 PROG (in) "This pin is for programming the charging current and for system loop compensation. During normal operation, VPROG stays close to 2.465V. If it is shorted to GND the switching will stop. When a microprocessor-controlled DAC (See Datasheet)", 14 VCC1 (power) "Supply for the Chip. For good bypass, a low ESR capacitor of 10uF or higher is required, with the lead length kept to a minimum. VCC should be between 8V and 28V and at least 2V higher than VBAT for VBAT less than 10V, and 2.(See Datasheet)", 15 VCC2 (power) "Supply for the Chip. For good bypass, a low ESR capacitor of 10uF or higher is required, with the lead length kept to a minimum. VCC should be between 8V and 28V and at least 2V higher than VBAT for VBAT less than 10V, and 2.(See Datasheet)", 16 GND (power) "Ground Pin."

## LT1510CGN
designator U?
Constant-Voltage/ Constant-Current Battery Charger, 7 to 29 V Vin, 16-pin SOP (GN-16), 0 to 70 degC; Manufacturer: Linear Technology; PartNumber: LT1510CGN; Battery Chemistry: Li-Ion, Li-Polymer, NiCd, NiMH, Lead Acid; Charge Termination: Use LTC1729; Float Voltage: Adj; Max Charge Current(A): 1.07; Number of Cells: 1 to 4 (Li), 1 to 12 (Ni); Type of Charger: Switching; Vin Max(V): 29; Vin Min(V): 7; DatasheetVersion: Rev. C; PackageVersion: Rev. B, 03/2012; PackageReference: GN-16; PackageDescription: 16-Pin Plastic SSOP, Body 4.9 x 3.9 mm, Pitch 0.635 mm; Supplier 1: Digi-Key; Supplier Part Number 1: LT1510CGN-ND; RoHS: FALSE; Mounting Technology: Surface Mount; ComponentLink1Description: Manufacturer URL; ComponentLink1URL: http://www.linear.com/; ComponentLink2Description: Datasheet; ComponentLink2URL: http://cds.linear.com/docs/en/datasheet/1510fc.pdf; ComponentLink3Description: Package Specification; ComponentLink3URL: http://cds.linear.com/docs/en/packaging/05081641_B_GN16.pdf
footprint LT-GN-16_N (SOP, 16-Leads, Body 5x4mm, Pitch 0.635mm, IPC Medium Density)
footprint LT-GN-16_L (SOP, 16-Leads, Body 5x4mm, Pitch 0.635mm, IPC High Density)
footprint LT-GN-16_M (SOP, 16-Leads, Body 5x4mm, Pitch 0.635mm, IPC Low Density)
pins: 1 GND (power) "Ground Pin.", 2 SW (power) "Switch Output. The Schottky catch diode must be placed with very short lead length in close proximity to SW pin and GND.", 3 BOOST "This pin is used to bootstrap and drive the switch power NPN transistor to a low on-voltage for low power dissipation. In normal operation, VBOOST = VCC + VBAT when switch is on. Maximum allowable VBOOST is 55V.", 4 GND (power) "Ground Pin.", 5 OVP (in) "This is the input to the amplifier VA with a threshold of 2.465V. Typical input current is about 50nA into pin. For charging lithium-ion batteries, VA monitors the battery voltage and reduces charging current when battery (See Datasheet)", 6 NC, 7 SENSE (in) "Current Amplifier CA1 Input. Sensing can be at either terminal of the battery. Note that current sense resistor RS1 (0.08ohm) is between Sense and BAT pins.", 8 GND (power) "Ground Pin.", 9 GND (power) "Ground Pin.", 10 BAT (in) "Current Amplifier CA1 Input.", 11 NC, 12 VC "This is the control signal of the inner loop of the current mode PWM. Switching starts at 0.7V and higher VC corresponds to higher charging current in normal operation. A capacitor of at least 0.1uF to GND filters out noise (See Datasheet)", 13 PROG (in) "This pin is for programming the charging current and for system loop compensation. During normal operation, VPROG stays close to 2.465V. If it is shorted to GND the switching will stop. When a microprocessor-controlled DAC (See Datasheet)", 14 VCC1 (power) "Supply for the Chip. For good bypass, a low ESR capacitor of 10uF or higher is required, with the lead length kept to a minimum. VCC should be between 8V and 28V and at least 2V higher than VBAT for VBAT less than 10V, and 2.(See Datasheet)", 15 VCC2 (power) "Supply for the Chip. For good bypass, a low ESR capacitor of 10uF or higher is required, with the lead length kept to a minimum. VCC should be between 8V and 28V and at least 2V higher than VBAT for VBAT less than 10V, and 2.(See Datasheet)", 16 GND (power) "Ground Pin."

## LT1510CGN#PBF
designator U?
Constant-Voltage/ Constant-Current Battery Charger, 7 to 29 V Vin, 16-pin SOP (GN-16), 0 to 70 degC, Pb-Free; Manufacturer: Linear Technology; PartNumber: LT1510CGN#PBF; Battery Chemistry: Li-Ion, Li-Polymer, NiCd, NiMH, Lead Acid; Charge Termination: Use LTC1729; Float Voltage: Adj; Max Charge Current(A): 1.07; Number of Cells: 1 to 4 (Li), 1 to 12 (Ni); Type of Charger: Switching; Vin Max(V): 29; Vin Min(V): 7; DatasheetVersion: Rev. C; PackageVersion: Rev. B, 03/2012; PackageReference: GN-16; PackageDescription: 16-Pin Plastic SSOP, Body 4.9 x 3.9 mm, Pitch 0.635 mm; Supplier 1: Digi-Key; Supplier Part Number 1: LT1510CGN#PBF-ND; Supplier 2: Farnell; Supplier Part Number 2: 2252791; Supplier 3: Newark; Supplier Part Number 3: 57M4672; RoHS: TRUE; Mounting Technology: Surface Mount; ComponentLink1Description: Manufacturer URL; ComponentLink1URL: http://www.linear.com/; ComponentLink2Description: Datasheet; ComponentLink2URL: http://cds.linear.com/docs/en/datasheet/1510fc.pdf; ComponentLink3Description: Package Specification; ComponentLink3URL: http://cds.linear.com/docs/en/packaging/05081641_B_GN16.pdf
footprint LT-GN-16_N (SOP, 16-Leads, Body 5x4mm, Pitch 0.635mm, IPC Medium Density)
footprint LT-GN-16_L (SOP, 16-Leads, Body 5x4mm, Pitch 0.635mm, IPC High Density)
footprint LT-GN-16_M (SOP, 16-Leads, Body 5x4mm, Pitch 0.635mm, IPC Low Density)
pins: 1 GND (power) "Ground Pin.", 2 SW (power) "Switch Output. The Schottky catch diode must be placed with very short lead length in close proximity to SW pin and GND.", 3 BOOST "This pin is used to bootstrap and drive the switch power NPN transistor to a low on-voltage for low power dissipation. In normal operation, VBOOST = VCC + VBAT when switch is on. Maximum allowable VBOOST is 55V.", 4 GND (power) "Ground Pin.", 5 OVP (in) "This is the input to the amplifier VA with a threshold of 2.465V. Typical input current is about 50nA into pin. For charging lithium-ion batteries, VA monitors the battery voltage and reduces charging current when battery (See Datasheet)", 6 NC, 7 SENSE (in) "Current Amplifier CA1 Input. Sensing can be at either terminal of the battery. Note that current sense resistor RS1 (0.08ohm) is between Sense and BAT pins.", 8 GND (power) "Ground Pin.", 9 GND (power) "Ground Pin.", 10 BAT (in) "Current Amplifier CA1 Input.", 11 NC, 12 VC "This is the control signal of the inner loop of the current mode PWM. Switching starts at 0.7V and higher VC corresponds to higher charging current in normal operation. A capacitor of at least 0.1uF to GND filters out noise (See Datasheet)", 13 PROG (in) "This pin is for programming the charging current and for system loop compensation. During normal operation, VPROG stays close to 2.465V. If it is shorted to GND the switching will stop. When a microprocessor-controlled DAC (See Datasheet)", 14 VCC1 (power) "Supply for the Chip. For good bypass, a low ESR capacitor of 10uF or higher is required, with the lead length kept to a minimum. VCC should be between 8V and 28V and at least 2V higher than VBAT for VBAT less than 10V, and 2.(See Datasheet)", 15 VCC2 (power) "Supply for the Chip. For good bypass, a low ESR capacitor of 10uF or higher is required, with the lead length kept to a minimum. VCC should be between 8V and 28V and at least 2V higher than VBAT for VBAT less than 10V, and 2.(See Datasheet)", 16 GND (power) "Ground Pin."